# Altium footprint library 2019-07-30_08-24-30.PcbLib: 3 footprints
Each footprint in its own frame and in the unit in brackets; x right, y up, seen from the top. Pads: shape width x height; smd on the part's side, far side on the other; paste and mask are expansions set on the pad; w line width, h text height; cw(c..) or ccw(c..) is an arc to the next point about the centre after c.
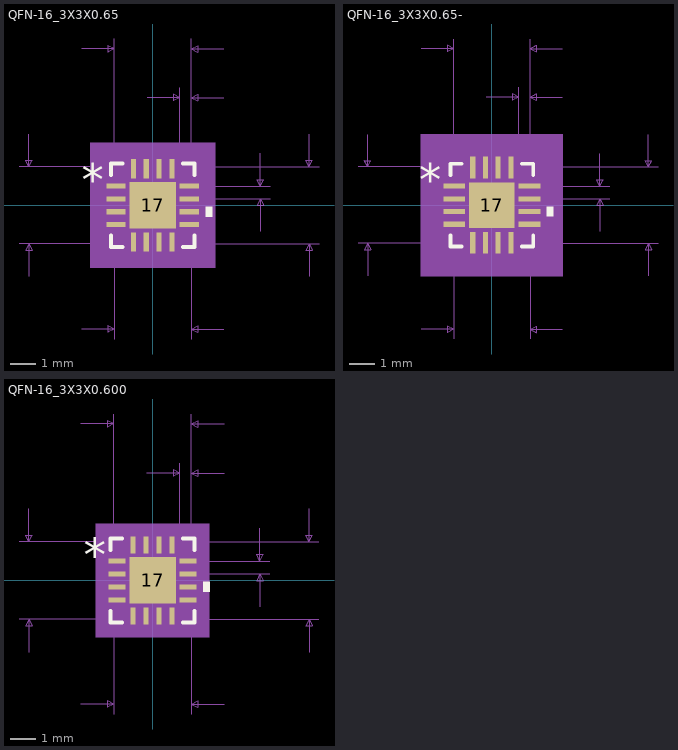
[diagram p0: the footprints below, top view; thin cyan lines are the x and y axes]

## QFN-16_3X3X0.65 [mm]
pads (17):
  rect 0.755x0.198 smd paste+0 mask+0: 1(-1.427,0.75) 2(-1.427,0.25) 3(-1.427,-0.25) 4(-1.427,-0.75) 9(1.427,-0.75) 10(1.427,-0.25) 11(1.427,0.25) 12(1.427,0.75)
  rect 0.198x0.755 smd paste+0 mask+0: 5(-0.75,-1.427) 6(-0.25,-1.427) 7(0.25,-1.427) 8(0.75,-1.427) 13(0.75,1.427) 14(0.25,1.427) 15(-0.25,1.427) 16(-0.75,1.427)
  rect 1.8x1.8 smd paste-0.887 mask+0: 17(0,0)
Top Overlay:
  region: 2.059,-0.059 2.313,-0.059 2.313,-0.44 2.059,-0.44
  lines w0.152: -1.627,-1.182 -1.627,-1.627 -1.182,-1.627 ; -1.627,1.182 -1.627,1.627 -1.182,1.627 ; 1.182,-1.627 1.627,-1.627 1.627,-1.182 ; 1.182,1.627 1.627,1.627 1.627,1.182
  text "*" at -2.757,0.365 h1.27
Top Paste:
  region: 0.9,0.9 -0.9,0.9 -0.9,-0.9 0.9,-0.9
Mechanical 5:
  region: 2.44,-2.44 -2.44,-2.44 -2.44,2.44 2.44,2.44
Mechanical 7:
  lines w0.025: -5.208,-1.5 1.5,-1.5 ; -5.208,1.5 1.5,1.5 1.5,-5.208 ; -4.827,-2.77 -4.827,-1.5 ; -4.827,2.77 -4.827,1.5 ; -2.77,-4.827 -1.5,-4.827 ; -2.77,6.097 -1.5,6.097 ; -1.5,-5.208 -1.5,1.5 ; -1.5,0.75 -1.5,6.478 ; -0.22,4.192 1.05,4.192 ; 0.75,-1.5 6.478,-1.5 ; 0.75,1.5 6.478,1.5 ; 1.05,0.75 1.05,4.573 ; 1.427,0.25 4.573,0.25 ; 1.427,0.75 4.573,0.75 ; 1.5,4.573 1.5,0.75 1.5,6.478 ; 2.77,-4.827 1.5,-4.827 ; 2.77,4.192 1.5,4.192 ; 2.77,6.097 1.5,6.097 ; 4.192,-1.02 4.192,0.25 ; 4.192,2.02 4.192,0.75 ; 6.097,-2.77 6.097,-1.5 ; 6.097,2.77 6.097,1.5 ; -4.827,-1.5 -4.954,-1.754 -4.7,-1.754 -4.827,-1.5 ; -4.827,1.5 -4.954,1.754 -4.7,1.754 -4.827,1.5 ; -1.5,-4.827 -1.754,-4.7 -1.754,-4.954 -1.5,-4.827 ; -1.5,6.097 -1.754,6.224 -1.754,5.97 -1.5,6.097 ; 1.05,4.192 0.796,4.319 0.796,4.065 1.05,4.192 ; 1.5,-4.827 1.754,-4.7 1.754,-4.954 1.5,-4.827 ; 1.5,4.192 1.754,4.319 1.754,4.065 1.5,4.192 ; 1.5,6.097 1.754,6.224 1.754,5.97 1.5,6.097 ; 4.192,0.25 4.065,-0.004 4.319,-0.004 4.192,0.25 ; 4.192,0.75 4.065,1.004 4.319,1.004 4.192,0.75 ; 6.097,-1.5 5.97,-1.754 6.224,-1.754 6.097,-1.5 ; 6.097,1.5 5.97,1.754 6.224,1.754 6.097,1.5
  text "Default Padstyle: RX7p81Y29p72D0T" at -10.477,-9.679 h1.27
  text "Heat Tab Padstyle: RX70p87Y70p87D0T" at -11.112,-11.203 h1.27
  text "Alt 1 Padstyle: OX60Y90D30P" at -8.572,-14.251 h1.27
  text "Alt 2 Padstyle: OX90Y60D30P" at -8.572,-15.775 h1.27
  text "0.02in/0.5mm" at 4.7,0.182 h0.64
  text "0.018in/0.45mm" at -0.948,4.7 h0.64
  text "0.118in/3mm" at -1.746,6.605 h0.64
  text "0.118in/3mm" at 6.605,-0.318 h0.64
  text "0.118in/3mm" at -8.828,-0.318 h0.64
  text "0.118in/3mm" at -1.746,-5.97 h0.64
Mechanical 13:
  lines w0.025: -1.5,0.23 -0.23,1.5 ; -1.5,-1.5 1.5,-1.5 ; -1.5,-1.5 -1.5,1.5 ; -1.5,-1.5 -1.5,-1.5 ; -1.5,-0.9 -1.5,-0.6 ; -1.5,-0.9 -1.5,-0.6 ; -1.5,-0.9 -1.5,-0.9 ; -1.5,-0.6 -1.5,-0.6 ; -1.5,-0.4 -1.5,-0.1 ; -1.5,-0.4 -1.5,-0.1 ; -1.5,-0.4 -1.5,-0.4 ; -1.5,-0.1 -1.5,-0.1 ; -1.5,0.1 -1.5,0.4 ; -1.5,0.1 -1.5,0.4 ; -1.5,0.1 -1.5,0.1 ; -1.5,0.4 -1.5,0.4 ; -1.5,0.6 -1.5,0.9 ; -1.5,0.6 -1.5,0.9 ; -1.5,0.6 -1.5,0.6 ; -1.5,0.9 -1.5,0.9 ; -1.5,1.5 1.5,1.5 ; -1.5,1.5 -1.5,1.5 ; -0.9,-1.5 -0.6,-1.5 ; -0.9,-1.5 -0.9,-1.5 ; -0.9,-1.5 -0.6,-1.5 ; -0.9,1.5 -0.6,1.5 ; -0.9,1.5 -0.6,1.5 ; -0.9,1.5 -0.9,1.5 ; -0.6,-1.5 -0.6,-1.5 ; -0.6,1.5 -0.6,1.5 ; -0.4,-1.5 -0.1,-1.5 ; -0.4,-1.5 -0.4,-1.5 ; -0.4,-1.5 -0.1,-1.5 ; -0.4,1.5 -0.1,1.5 ; -0.4,1.5 -0.1,1.5 ; -0.4,1.5 -0.4,1.5 ; -0.1,-1.5 -0.1,-1.5 ; -0.1,1.5 -0.1,1.5 ; 0.1,-1.5 0.4,-1.5 ; 0.1,-1.5 0.1,-1.5 ; 0.1,-1.5 0.4,-1.5 ; 0.1,1.5 0.4,1.5 ; 0.1,1.5 0.4,1.5 ; 0.1,1.5 0.1,1.5 ; 0.4,-1.5 0.4,-1.5 ; 0.4,1.5 0.4,1.5 ; 0.6,-1.5 0.9,-1.5 ; 0.6,-1.5 0.6,-1.5 ; 0.6,-1.5 0.9,-1.5 ; 0.6,1.5 0.9,1.5 ; 0.6,1.5 0.9,1.5 ; 0.6,1.5 0.6,1.5 ; 0.9,-1.5 0.9,-1.5 ; 0.9,1.5 0.9,1.5 ; 1.5,-1.5 1.5,-1.5 ; 1.5,-1.5 1.5,1.5 ; 1.5,-0.9 1.5,-0.6 ; 1.5,-0.9 1.5,-0.9 ; 1.5,-0.9 1.5,-0.6 ; 1.5,-0.6 1.5,-0.6 ; 1.5,-0.4 1.5,-0.1 ; 1.5,-0.4 1.5,-0.4 ; 1.5,-0.4 1.5,-0.1 ; 1.5,-0.1 1.5,-0.1 ; 1.5,0.1 1.5,0.4 ; 1.5,0.1 1.5,0.1 ; 1.5,0.1 1.5,0.4 ; 1.5,0.4 1.5,0.4 ; 1.5,0.6 1.5,0.9 ; 1.5,0.6 1.5,0.6 ; 1.5,0.6 1.5,0.9 ; 1.5,0.9 1.5,0.9 ; 1.5,1.5 1.5,1.5
  text "*" at -1.368,0.365 h1.27
Mechanical 15:
  region: -1.103,-1.754 -1.754,-1.754 -1.754,-1.103 -2.059,-1.103 -2.059,1.103 -1.754,1.103 -1.754,1.754 -1.103,1.754 -1.103,2.059 1.103,2.059 1.103,1.754 1.754,1.754 1.754,1.103 2.059,1.103 2.059,-1.103 1.754,-1.103 1.754,-1.754 1.103,-1.754 1.103,-2.059 -1.103,-2.059
  lines w0.152: -2.059,-1.103 -1.754,-1.103 -1.754,-1.754 -1.103,-1.754 -1.103,-2.059 1.103,-2.059 1.103,-1.754 1.754,-1.754 1.754,-1.103 2.059,-1.103 2.059,1.103 1.754,1.103 1.754,1.754 1.103,1.754 1.103,2.059 -1.103,2.059 -1.103,1.754 -1.754,1.754 -1.754,1.103 -2.059,1.103 -2.059,-1.103
3D body: height 0.25, standoff 0, extent 0,0 0.254,0.254

## QFN-16_3X3X0.65- [mm]
pads (17):
  rect 0.856x0.198 smd paste+0 mask+0: 1(-1.478,0.75) 2(-1.478,0.25) 3(-1.478,-0.25) 4(-1.478,-0.75) 9(1.478,-0.75) 10(1.478,-0.25) 11(1.478,0.25) 12(1.478,0.75)
  rect 0.198x0.856 smd paste+0 mask+0: 5(-0.75,-1.478) 6(-0.25,-1.478) 7(0.25,-1.478) 8(0.75,-1.478) 13(0.75,1.478) 14(0.25,1.478) 15(-0.25,1.478) 16(-0.75,1.478)
  rect 1.8x1.8 smd paste-0.887 mask+0: 17(0,0)
Top Overlay:
  region: 2.16,-0.059 2.414,-0.059 2.414,-0.44 2.16,-0.44
  lines w0.152: -1.627,-1.182 -1.627,-1.627 -1.182,-1.627 ; -1.627,1.182 -1.627,1.627 -1.182,1.627 ; 1.182,-1.627 1.627,-1.627 1.627,-1.182 ; 1.182,1.627 1.627,1.627 1.627,1.182
  text "*" at -2.859,0.365 h1.27
Top Paste:
  region: 0.9,0.9 -0.9,0.9 -0.9,-0.9 0.9,-0.9
Mechanical 5:
  region: 2.795,-2.795 -2.795,-2.795 -2.795,2.795 2.795,2.795
Mechanical 7:
  lines w0.025: -5.259,-1.5 1.5,-1.5 ; -5.259,1.5 1.5,1.5 1.5,-5.259 ; -4.878,-2.77 -4.878,-1.5 ; -4.878,2.77 -4.878,1.5 ; -2.77,-4.878 -1.5,-4.878 ; -2.77,6.148 -1.5,6.148 ; -1.5,-5.259 -1.5,1.5 ; -1.5,0.75 -1.5,6.529 ; -0.22,4.243 1.05,4.243 ; 0.75,-1.5 6.529,-1.5 ; 0.75,1.5 6.529,1.5 ; 1.05,0.75 1.05,4.624 ; 1.478,0.25 4.624,0.25 ; 1.478,0.75 4.624,0.75 ; 1.5,4.624 1.5,0.75 1.5,6.529 ; 2.77,-4.878 1.5,-4.878 ; 2.77,4.243 1.5,4.243 ; 2.77,6.148 1.5,6.148 ; 4.243,-1.02 4.243,0.25 ; 4.243,2.02 4.243,0.75 ; 6.148,-2.77 6.148,-1.5 ; 6.148,2.77 6.148,1.5 ; -4.878,-1.5 -5.005,-1.754 -4.751,-1.754 -4.878,-1.5 ; -4.878,1.5 -5.005,1.754 -4.751,1.754 -4.878,1.5 ; -1.5,-4.878 -1.754,-4.751 -1.754,-5.005 -1.5,-4.878 ; -1.5,6.148 -1.754,6.275 -1.754,6.021 -1.5,6.148 ; 1.05,4.243 0.796,4.37 0.796,4.116 1.05,4.243 ; 1.5,-4.878 1.754,-4.751 1.754,-5.005 1.5,-4.878 ; 1.5,4.243 1.754,4.37 1.754,4.116 1.5,4.243 ; 1.5,6.148 1.754,6.275 1.754,6.021 1.5,6.148 ; 4.243,0.25 4.116,-0.004 4.37,-0.004 4.243,0.25 ; 4.243,0.75 4.116,1.004 4.37,1.004 4.243,0.75 ; 6.148,-1.5 6.021,-1.754 6.275,-1.754 6.148,-1.5 ; 6.148,1.5 6.021,1.754 6.275,1.754 6.148,1.5
  text "Default Padstyle: RX7p81Y33p72D0T" at -10.477,-9.78 h1.27
  text "Heat Tab Padstyle: RX70p87Y70p87D0T" at -11.112,-11.304 h1.27
  text "Alt 1 Padstyle: OX60Y90D30P" at -8.572,-14.352 h1.27
  text "Alt 2 Padstyle: OX90Y60D30P" at -8.572,-15.876 h1.27
  text "0.02in/0.5mm" at 4.751,0.182 h0.64
  text "0.018in/0.45mm" at -0.948,4.751 h0.64
  text "0.118in/3mm" at -1.746,6.656 h0.64
  text "0.118in/3mm" at 6.656,-0.318 h0.64
  text "0.118in/3mm" at -8.879,-0.318 h0.64
  text "0.118in/3mm" at -1.746,-6.021 h0.64
Mechanical 13:
  lines w0.025: -1.5,0.23 -0.23,1.5 ; -1.5,-1.5 1.5,-1.5 ; -1.5,-1.5 -1.5,1.5 ; -1.5,-1.5 -1.5,-1.5 ; -1.5,-0.9 -1.5,-0.6 ; -1.5,-0.9 -1.5,-0.6 ; -1.5,-0.9 -1.5,-0.9 ; -1.5,-0.6 -1.5,-0.6 ; -1.5,-0.4 -1.5,-0.1 ; -1.5,-0.4 -1.5,-0.1 ; -1.5,-0.4 -1.5,-0.4 ; -1.5,-0.1 -1.5,-0.1 ; -1.5,0.1 -1.5,0.4 ; -1.5,0.1 -1.5,0.4 ; -1.5,0.1 -1.5,0.1 ; -1.5,0.4 -1.5,0.4 ; -1.5,0.6 -1.5,0.9 ; -1.5,0.6 -1.5,0.9 ; -1.5,0.6 -1.5,0.6 ; -1.5,0.9 -1.5,0.9 ; -1.5,1.5 1.5,1.5 ; -1.5,1.5 -1.5,1.5 ; -0.9,-1.5 -0.6,-1.5 ; -0.9,-1.5 -0.9,-1.5 ; -0.9,-1.5 -0.6,-1.5 ; -0.9,1.5 -0.6,1.5 ; -0.9,1.5 -0.6,1.5 ; -0.9,1.5 -0.9,1.5 ; -0.6,-1.5 -0.6,-1.5 ; -0.6,1.5 -0.6,1.5 ; -0.4,-1.5 -0.1,-1.5 ; -0.4,-1.5 -0.4,-1.5 ; -0.4,-1.5 -0.1,-1.5 ; -0.4,1.5 -0.1,1.5 ; -0.4,1.5 -0.1,1.5 ; -0.4,1.5 -0.4,1.5 ; -0.1,-1.5 -0.1,-1.5 ; -0.1,1.5 -0.1,1.5 ; 0.1,-1.5 0.4,-1.5 ; 0.1,-1.5 0.1,-1.5 ; 0.1,-1.5 0.4,-1.5 ; 0.1,1.5 0.4,1.5 ; 0.1,1.5 0.4,1.5 ; 0.1,1.5 0.1,1.5 ; 0.4,-1.5 0.4,-1.5 ; 0.4,1.5 0.4,1.5 ; 0.6,-1.5 0.9,-1.5 ; 0.6,-1.5 0.6,-1.5 ; 0.6,-1.5 0.9,-1.5 ; 0.6,1.5 0.9,1.5 ; 0.6,1.5 0.9,1.5 ; 0.6,1.5 0.6,1.5 ; 0.9,-1.5 0.9,-1.5 ; 0.9,1.5 0.9,1.5 ; 1.5,-1.5 1.5,-1.5 ; 1.5,-1.5 1.5,1.5 ; 1.5,-0.9 1.5,-0.6 ; 1.5,-0.9 1.5,-0.9 ; 1.5,-0.9 1.5,-0.6 ; 1.5,-0.6 1.5,-0.6 ; 1.5,-0.4 1.5,-0.1 ; 1.5,-0.4 1.5,-0.4 ; 1.5,-0.4 1.5,-0.1 ; 1.5,-0.1 1.5,-0.1 ; 1.5,0.1 1.5,0.4 ; 1.5,0.1 1.5,0.1 ; 1.5,0.1 1.5,0.4 ; 1.5,0.4 1.5,0.4 ; 1.5,0.6 1.5,0.9 ; 1.5,0.6 1.5,0.6 ; 1.5,0.6 1.5,0.9 ; 1.5,0.9 1.5,0.9 ; 1.5,1.5 1.5,1.5
  text "*" at -1.368,0.365 h1.27
Mechanical 15:
  region: -1.357,-2.008 -2.008,-2.008 -2.008,-1.357 -2.414,-1.357 -2.414,1.357 -2.008,1.357 -2.008,2.008 -1.357,2.008 -1.357,2.414 1.357,2.414 1.357,2.008 2.008,2.008 2.008,1.357 2.414,1.357 2.414,-1.357 2.008,-1.357 2.008,-2.008 1.357,-2.008 1.357,-2.414 -1.357,-2.414
  lines w0.152: -2.414,-1.357 -2.008,-1.357 -2.008,-2.008 -1.357,-2.008 -1.357,-2.414 1.357,-2.414 1.357,-2.008 2.008,-2.008 2.008,-1.357 2.414,-1.357 2.414,1.357 2.008,1.357 2.008,2.008 1.357,2.008 1.357,2.414 -1.357,2.414 -1.357,2.008 -2.008,2.008 -2.008,1.357 -2.414,1.357 -2.414,-1.357
3D body: height 0.25, standoff 0, extent 0,0 0.254,0.254

## QFN-16_3X3X0.600 [mm]
pads (17):
  rect 0.653x0.198 smd paste+0 mask+0: 1(-1.377,0.75) 2(-1.377,0.25) 3(-1.377,-0.25) 4(-1.377,-0.75) 9(1.377,-0.75) 10(1.377,-0.25) 11(1.377,0.25) 12(1.377,0.75)
  rect 0.198x0.653 smd paste+0 mask+0: 5(-0.75,-1.377) 6(-0.25,-1.377) 7(0.25,-1.377) 8(0.75,-1.377) 13(0.75,1.377) 14(0.25,1.377) 15(-0.25,1.377) 16(-0.75,1.377)
  rect 1.8x1.8 smd paste-0.887 mask+0: 17(0,0)
Top Overlay:
  region: 1.957,-0.059 2.211,-0.059 2.211,-0.44 1.957,-0.44
  lines w0.152: -1.627,-1.182 -1.627,-1.627 -1.182,-1.627 ; -1.627,1.182 -1.627,1.627 -1.182,1.627 ; 1.182,-1.627 1.627,-1.627 1.627,-1.182 ; 1.182,1.627 1.627,1.627 1.627,1.182
  text "*" at -2.656,0.365 h1.27
Top Paste:
  region: 0.9,0.9 -0.9,0.9 -0.9,-0.9 0.9,-0.9
Mechanical 5:
  region: 2.186,-2.186 -2.186,-2.186 -2.186,2.186 2.186,2.186
Mechanical 7:
  lines w0.025: -5.158,-1.5 1.5,-1.5 ; -5.158,1.5 1.5,1.5 1.5,-5.158 ; -4.777,-2.77 -4.777,-1.5 ; -4.777,2.77 -4.777,1.5 ; -2.77,-4.777 -1.5,-4.777 ; -2.77,6.047 -1.5,6.047 ; -1.5,-5.158 -1.5,1.5 ; -1.5,0.75 -1.5,6.428 ; -0.22,4.142 1.05,4.142 ; 0.75,-1.5 6.428,-1.5 ; 0.75,1.5 6.428,1.5 ; 1.05,0.75 1.05,4.523 ; 1.377,0.25 4.523,0.25 ; 1.377,0.75 4.523,0.75 ; 1.5,4.523 1.5,0.75 1.5,6.428 ; 2.77,-4.777 1.5,-4.777 ; 2.77,4.142 1.5,4.142 ; 2.77,6.047 1.5,6.047 ; 4.142,-1.02 4.142,0.25 ; 4.142,2.02 4.142,0.75 ; 6.047,-2.77 6.047,-1.5 ; 6.047,2.77 6.047,1.5 ; -4.777,-1.5 -4.904,-1.754 -4.65,-1.754 -4.777,-1.5 ; -4.777,1.5 -4.904,1.754 -4.65,1.754 -4.777,1.5 ; -1.5,-4.777 -1.754,-4.65 -1.754,-4.904 -1.5,-4.777 ; -1.5,6.047 -1.754,6.174 -1.754,5.92 -1.5,6.047 ; 1.05,4.142 0.796,4.269 0.796,4.015 1.05,4.142 ; 1.5,-4.777 1.754,-4.65 1.754,-4.904 1.5,-4.777 ; 1.5,4.142 1.754,4.269 1.754,4.015 1.5,4.142 ; 1.5,6.047 1.754,6.174 1.754,5.92 1.5,6.047 ; 4.142,0.25 4.015,-0.004 4.269,-0.004 4.142,0.25 ; 4.142,0.75 4.015,1.004 4.269,1.004 4.142,0.75 ; 6.047,-1.5 5.92,-1.754 6.174,-1.754 6.047,-1.5 ; 6.047,1.5 5.92,1.754 6.174,1.754 6.047,1.5
  text "Default Padstyle: RX7p81Y25p72D0T" at -10.477,-9.577 h1.27
  text "Heat Tab Padstyle: RX70p87Y70p87D0T" at -11.112,-11.101 h1.27
  text "Alt 1 Padstyle: OX60Y90D30P" at -8.572,-14.149 h1.27
  text "Alt 2 Padstyle: OX90Y60D30P" at -8.572,-15.673 h1.27
  text "0.02in/0.5mm" at 4.65,0.182 h0.64
  text "0.018in/0.45mm" at -0.948,4.65 h0.64
  text "0.118in/3mm" at -1.746,6.555 h0.64
  text "0.118in/3mm" at 6.555,-0.318 h0.64
  text "0.118in/3mm" at -8.777,-0.318 h0.64
  text "0.118in/3mm" at -1.746,-5.92 h0.64
Mechanical 13:
  lines w0.025: -1.5,0.23 -0.23,1.5 ; -1.5,-1.5 1.5,-1.5 ; -1.5,-1.5 -1.5,1.5 ; -1.5,-1.5 -1.5,-1.5 ; -1.5,-0.9 -1.5,-0.6 ; -1.5,-0.9 -1.5,-0.6 ; -1.5,-0.9 -1.5,-0.9 ; -1.5,-0.6 -1.5,-0.6 ; -1.5,-0.4 -1.5,-0.1 ; -1.5,-0.4 -1.5,-0.1 ; -1.5,-0.4 -1.5,-0.4 ; -1.5,-0.1 -1.5,-0.1 ; -1.5,0.1 -1.5,0.4 ; -1.5,0.1 -1.5,0.4 ; -1.5,0.1 -1.5,0.1 ; -1.5,0.4 -1.5,0.4 ; -1.5,0.6 -1.5,0.9 ; -1.5,0.6 -1.5,0.9 ; -1.5,0.6 -1.5,0.6 ; -1.5,0.9 -1.5,0.9 ; -1.5,1.5 1.5,1.5 ; -1.5,1.5 -1.5,1.5 ; -0.9,-1.5 -0.6,-1.5 ; -0.9,-1.5 -0.9,-1.5 ; -0.9,-1.5 -0.6,-1.5 ; -0.9,1.5 -0.6,1.5 ; -0.9,1.5 -0.6,1.5 ; -0.9,1.5 -0.9,1.5 ; -0.6,-1.5 -0.6,-1.5 ; -0.6,1.5 -0.6,1.5 ; -0.4,-1.5 -0.1,-1.5 ; -0.4,-1.5 -0.4,-1.5 ; -0.4,-1.5 -0.1,-1.5 ; -0.4,1.5 -0.1,1.5 ; -0.4,1.5 -0.1,1.5 ; -0.4,1.5 -0.4,1.5 ; -0.1,-1.5 -0.1,-1.5 ; -0.1,1.5 -0.1,1.5 ; 0.1,-1.5 0.4,-1.5 ; 0.1,-1.5 0.1,-1.5 ; 0.1,-1.5 0.4,-1.5 ; 0.1,1.5 0.4,1.5 ; 0.1,1.5 0.4,1.5 ; 0.1,1.5 0.1,1.5 ; 0.4,-1.5 0.4,-1.5 ; 0.4,1.5 0.4,1.5 ; 0.6,-1.5 0.9,-1.5 ; 0.6,-1.5 0.6,-1.5 ; 0.6,-1.5 0.9,-1.5 ; 0.6,1.5 0.9,1.5 ; 0.6,1.5 0.9,1.5 ; 0.6,1.5 0.6,1.5 ; 0.9,-1.5 0.9,-1.5 ; 0.9,1.5 0.9,1.5 ; 1.5,-1.5 1.5,-1.5 ; 1.5,-1.5 1.5,1.5 ; 1.5,-0.9 1.5,-0.6 ; 1.5,-0.9 1.5,-0.9 ; 1.5,-0.9 1.5,-0.6 ; 1.5,-0.6 1.5,-0.6 ; 1.5,-0.4 1.5,-0.1 ; 1.5,-0.4 1.5,-0.4 ; 1.5,-0.4 1.5,-0.1 ; 1.5,-0.1 1.5,-0.1 ; 1.5,0.1 1.5,0.4 ; 1.5,0.1 1.5,0.1 ; 1.5,0.1 1.5,0.4 ; 1.5,0.4 1.5,0.4 ; 1.5,0.6 1.5,0.9 ; 1.5,0.6 1.5,0.6 ; 1.5,0.6 1.5,0.9 ; 1.5,0.9 1.5,0.9 ; 1.5,1.5 1.5,1.5
  text "*" at -1.368,0.365 h1.27
Mechanical 15:
  region: -0.951,-1.602 -1.602,-1.602 -1.602,-0.951 -1.805,-0.951 -1.805,0.951 -1.602,0.951 -1.602,1.602 -0.951,1.602 -0.951,1.805 0.951,1.805 0.951,1.602 1.602,1.602 1.602,0.951 1.805,0.951 1.805,-0.951 1.602,-0.951 1.602,-1.602 0.951,-1.602 0.951,-1.805 -0.951,-1.805
  lines w0.152: -1.805,-0.951 -1.602,-0.951 -1.602,-1.602 -0.951,-1.602 -0.951,-1.805 0.951,-1.805 0.951,-1.602 1.602,-1.602 1.602,-0.951 1.805,-0.951 1.805,0.951 1.602,0.951 1.602,1.602 0.951,1.602 0.951,1.805 -0.951,1.805 -0.951,1.602 -1.602,1.602 -1.602,0.951 -1.805,0.951 -1.805,-0.951
3D body: height 0.25, standoff 0, extent 0,0 0.254,0.254